# Altium footprint library 0555600207.PcbLib: 1 footprints
Each footprint in its own frame and in the unit in brackets; x right, y up, seen from the top. Pads: shape width x height; smd on the part's side, far side on the other; paste and mask are expansions set on the pad; w line width, h text height; cw(c..) or ccw(c..) is an arc to the next point about the centre after c.
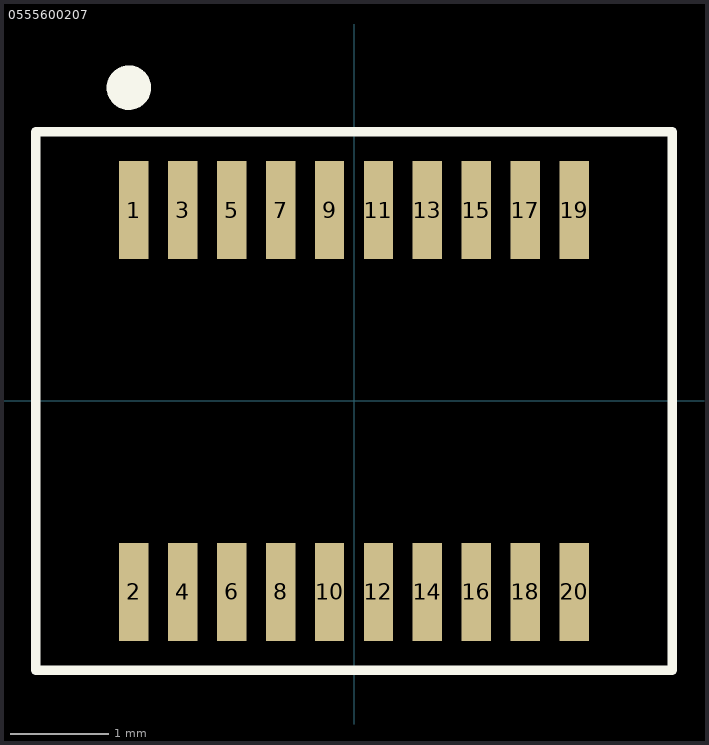
[diagram p0: the footprint, top view; thin cyan lines are the x and y axes]

## 0555600207 [mm]
pads (20):
  rect 0.3x1 smd mask+0.06: 1(-2.25,1.95) 2(-2.25,-1.95) 3(-1.75,1.95) 4(-1.75,-1.95) 5(-1.25,1.95) 6(-1.25,-1.95) 7(-0.75,1.95) 8(-0.75,-1.95) 9(-0.25,1.95) 10(-0.25,-1.95) 11(0.25,1.95) 12(0.25,-1.95) 13(0.75,1.95) 14(0.75,-1.95) 15(1.25,1.95) 16(1.25,-1.95) 17(1.75,1.95) 18(1.75,-1.95) 19(2.25,1.95) 20(2.25,-1.95)
Top Overlay:
  circle w0.254: c-2.3,3.2 r0.1
  lines w0.1: -3.25,-2.75 -3.25,2.75 3.25,2.75 3.25,-2.75 -3.25,-2.75
3D body "555600207.stp": height 1.17, standoff -0.03, extent -3.225,-2.17 3.225,2.13